# Altium footprint library ESC_footprint.PcbLib: 1 footprints
Each footprint in its own frame and in the unit in brackets; x right, y up, seen from the top. Pads: shape width x height; smd on the part's side, far side on the other; paste and mask are expansions set on the pad; w line width, h text height; cw(c..) or ccw(c..) is an arc to the next point about the centre after c.
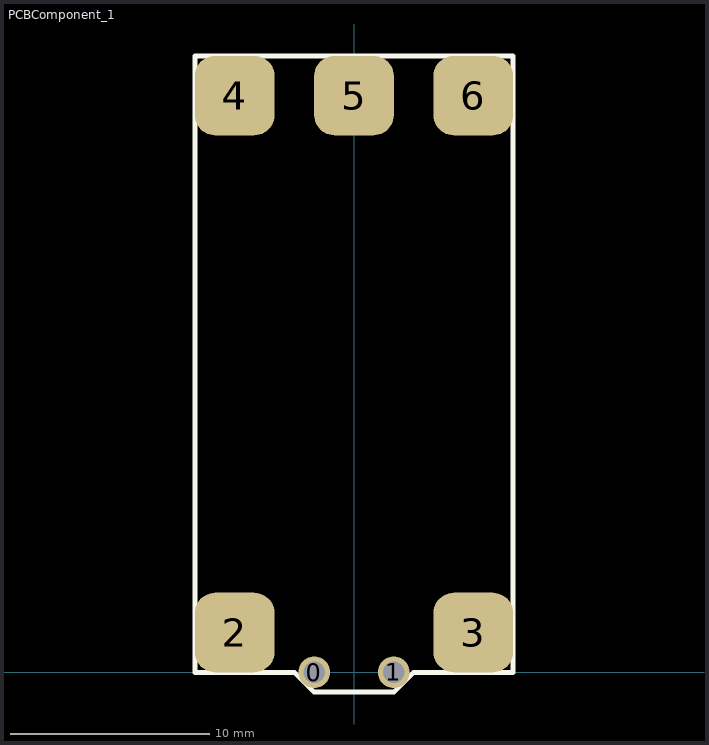
[diagram p0: the footprint, top view; thin cyan lines are the x and y axes]

## PCBComponent_1 [mm]
pads (8):
  round 1.6 hole 1.1: 0(-2,0) 1(2,0)
  rrect50% 4x4 all layers, no hole: 2(-6,2) 3(6,2) 4(-6,29) 4(-6,29) 5(0,29) 6(6,29)
Top Overlay:
  lines w0.254: -8,0 -3,0 -2,-1 2,-1 3,0 8,0 8,31 4,31 2,31 -2,31 -4,31 -8,31 -8,0